# Altium footprint library MECHANICAL.PcbLib: 2 footprints
Each footprint in its own frame and in the unit in brackets; x right, y up, seen from the top. Pads: shape width x height; smd on the part's side, far side on the other; paste and mask are expansions set on the pad; w line width, h text height; cw(c..) or ccw(c..) is an arc to the next point about the centre after c.
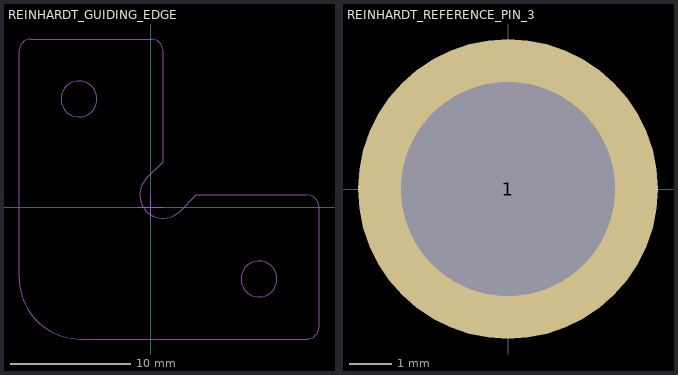
[diagram p0: the footprints below, top view; thin cyan lines are the x and y axes]

## REINHARDT_GUIDING_EDGE [mm]
Component Center Top:
  lines w0.05: -1,0 1,0 ; 0,-1 0,1
Test Equipment (Mech15):
  circle w0.1: c-6,9 r1.5
  circle w0.1: c9,-6 r1.5
  lines w0.1: -11,-5.867 ccw(c-5.867,-5.867) -5.867,-11 13.004,-11 ccw(c13.004,-10.003) 14,-10.003 14,0 ccw(c13,0) 13,1 3.758,1 2.383,-0.375 cw(c1.004,1.004) -0.375,2.383 1,3.758 1,13 ccw(c0,13) 0,14 -10.003,14 ccw(c-10.003,13.004) -11,13.004 -11,-5.867

## REINHARDT_REFERENCE_PIN_3 [mm]
pads (1):
  round 7 hole 5: 1(0,0)
3D body "REINHARDT_REFERENCE_PIN_3.x_t": height 39.9, standoff -4.65, extent -3,-2.994 3,2.994